# EAGLE library part G6K-* (library mylib)
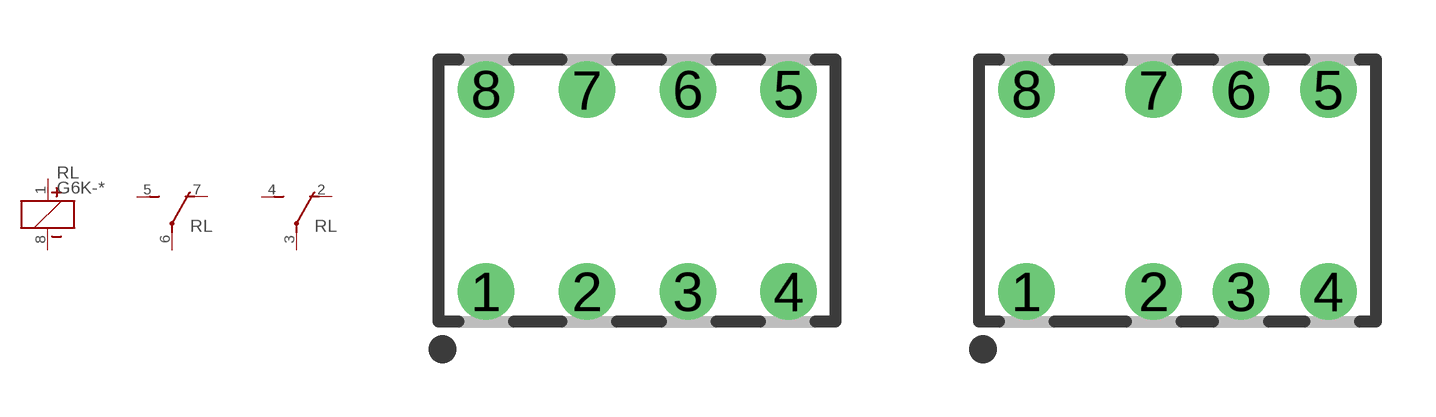
[diagram p123: symbol with the pads of G6K-2P; footprints G6K-2P, G6K-2P-Y]

Designator prefix RL; gates G$1=RELAY-COIL-POL G$2=PART-RELAY-SW G$3=PART-RELAY-SW

## G6K-5V-2P (DIGIKEY: Z116-ND; MOUSER: 653-G6K-2P-DC5)  [G6K-2P]
1  G$1:1  pas
2  G$3:NC  pas
3  G$3:COM  pas
4  G$3:NO  pas
5  G$2:NO  pas
6  G$2:COM  pas
7  G$2:NC  pas
8  G$1:2  pas

## G6K-5V-2P-Y (DIGIKEY: Z132-ND; MOUSER: 653-G6K-2P-Y-DC5)  [G6K-2P-Y]
Pads as for G6K-2P

## G6K--2F-Y  [G6K-2F-Y]
Pads as for G6K-2P

## Footprint G6K-2P (pad centres in mm)
drill 0.85 pad 1.422: 1 0,-2.54; 2 2.54,-2.54; 3 5.08,-2.54; 4 7.62,-2.54; 5 7.62,2.54; 6 5.08,2.54; 7 2.54,2.54; 8 0,2.54

## Footprint G6K-2P-Y (pad centres in mm)
drill 0.8 pad 1.422: 1 0,-2.54; 2 3.2,-2.54; 3 5.4,-2.54; 4 7.6,-2.54; 5 7.6,2.54; 6 5.4,2.54; 7 3.2,2.54; 8 0,2.54

## Footprint G6K-2F-Y (pad centres in mm)
smd 0.914 x 1.778: 1 0,-3.5; 2 3.2,-3.5; 3 5.4,-3.5; 4 7.6,-3.5; 5 7.6,3.5; 6 5.4,3.5; 7 3.2,3.5; 8 0,3.5